# Altium schematic symbol library led-cube.SchLib: 1 symbol
Pins are listed as number, name and electrical type; pins without a type are passive.

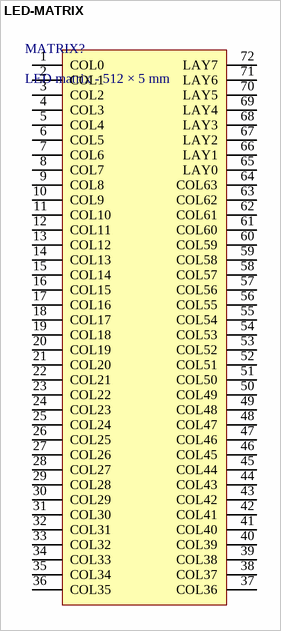
[diagram p0: symbol LED-MATRIX]

## LED-MATRIX
designator MATRIX?, comment LED matrix - 512 × 5 mm
LED matrix - 512 × 5 mm - 8x8x8
footprint LED-MATRIX-8x8x8
pins: 1 COL0, 2 COL1, 3 COL2, 4 COL3, 5 COL4, 6 COL5, 7 COL6, 8 COL7, 9 COL8, 10 COL9, 11 COL10, 12 COL11, 13 COL12, 14 COL13, 15 COL14, 16 COL15, 17 COL16, 18 COL17, 19 COL18, 20 COL19, 21 COL20, 22 COL21, 23 COL22, 24 COL23, 25 COL24, 26 COL25, 27 COL26, 28 COL27, 29 COL28, 30 COL29, 31 COL30, 32 COL31, 33 COL32, 34 COL33, 35 COL34, 36 COL35, 37 COL36, 38 COL37, 39 COL38, 40 COL39, 41 COL40, 42 COL41, 43 COL42, 44 COL43, 45 COL44, 46 COL45, 47 COL46, 48 COL47, 49 COL48, 50 COL49, 51 COL50, 52 COL51, 53 COL52, 54 COL53, 55 COL54, 56 COL55, 57 COL56, 58 COL57, 59 COL58, 60 COL59, 61 COL60, 62 COL61, 63 COL62, 64 COL63, 65 LAY0, 66 LAY1, 67 LAY2, 68 LAY3, 69 LAY4, 70 LAY5, 71 LAY6, 72 LAY7